# Altium footprint library con-leotronics.PCBLIB: 93 footprints (part 5 of 8)
Each footprint in its own frame and in the unit in brackets; x right, y up, seen from the top. Pads: shape width x height; smd on the part's side, far side on the other; paste and mask are expansions set on the pad; w line width, h text height; cw(c..) or ccw(c..) is an arc to the next point about the centre after c.
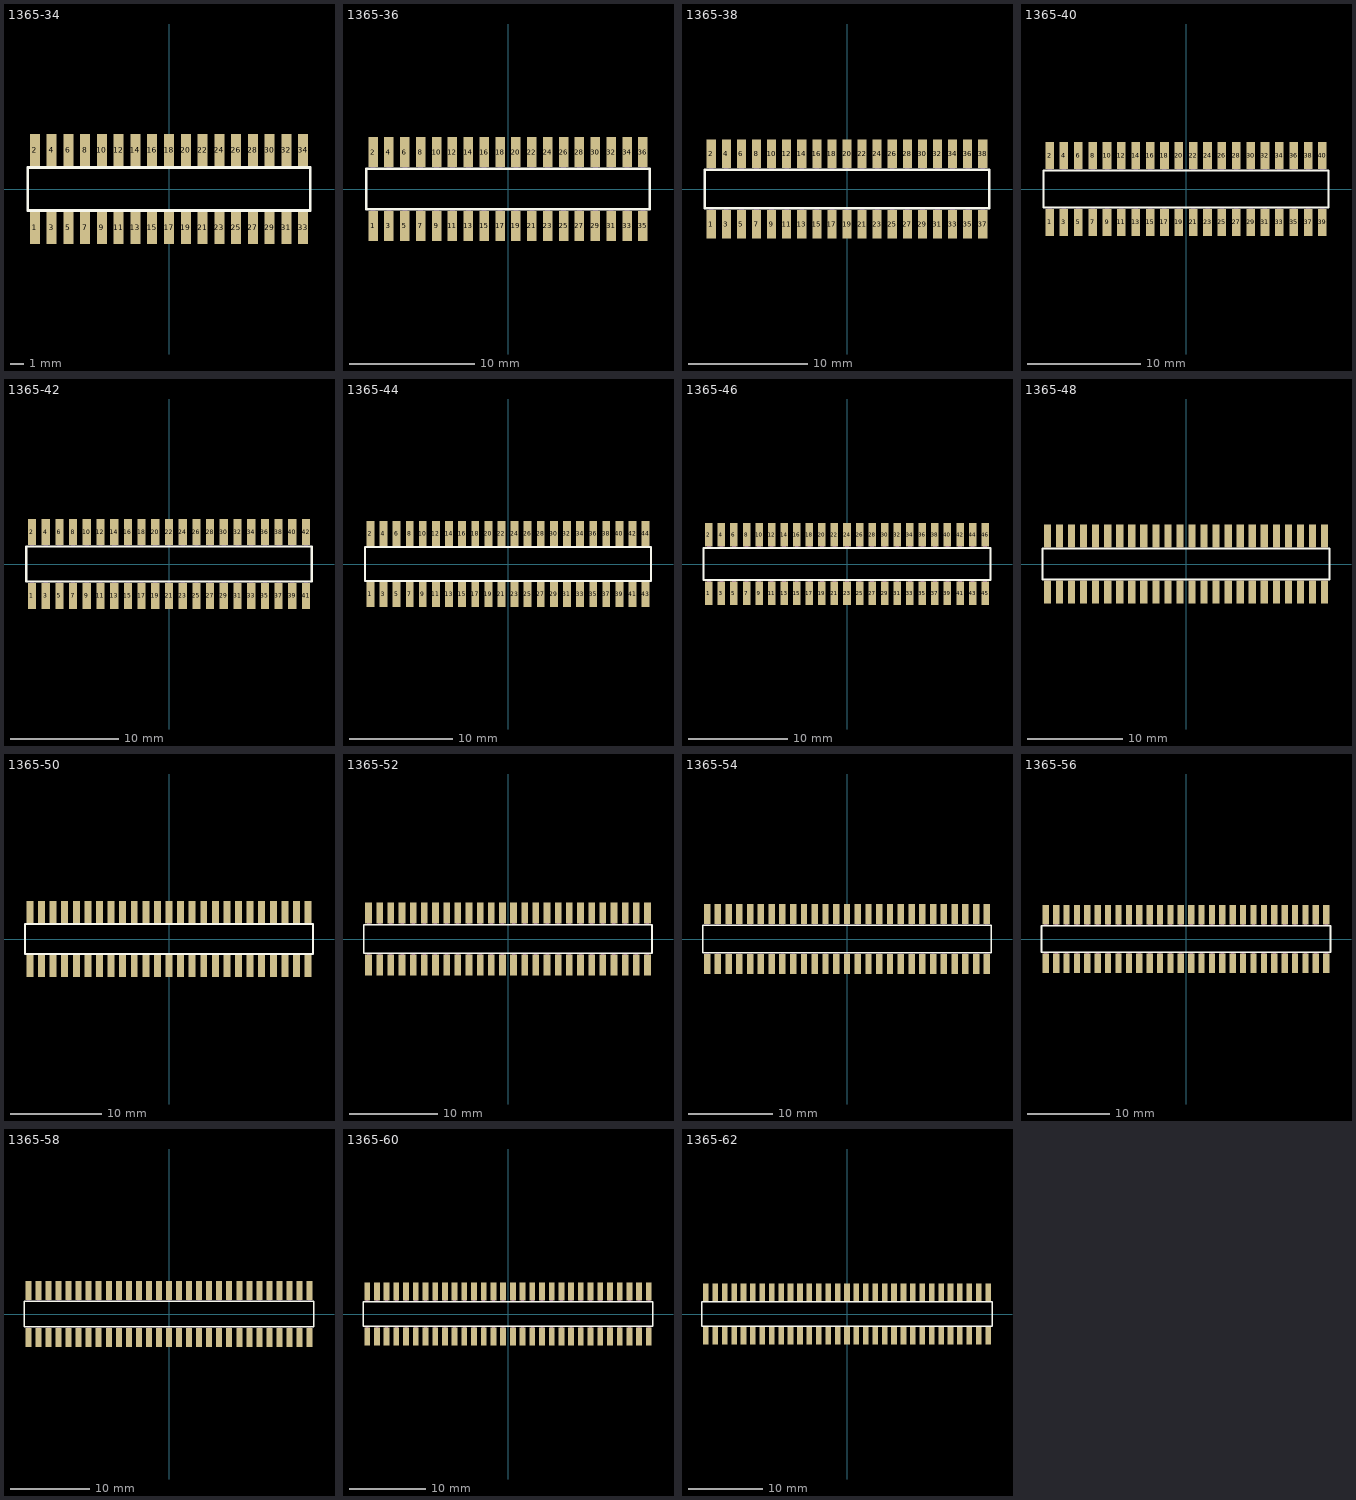
[diagram p4: the footprints below, top view; thin cyan lines are the x and y axes]

## 1365-34 [mm]
pads (34):
  rect 0.76x2.4 smd: 1(-10.16,-2.95) 2(-10.16,2.95) 3(-8.89,-2.95) 4(-8.89,2.95) 5(-7.62,-2.95) 6(-7.62,2.95) 7(-6.35,-2.95) 8(-6.35,2.95) 9(-5.08,-2.95) 10(-5.08,2.95) 11(-3.81,-2.95) 12(-3.81,2.95) 13(-2.54,-2.95) 14(-2.54,2.95) 15(-1.27,-2.95) 16(-1.27,2.95) 17(0,-2.95) 18(0,2.95) 19(1.27,-2.95) 20(1.27,2.95) 21(2.54,-2.95) 22(2.54,2.95) 23(3.81,-2.95) 24(3.81,2.95) 25(5.08,-2.95) 26(5.08,2.95) 27(6.35,-2.95) 28(6.35,2.95) 29(7.62,-2.95) 30(7.62,2.95) 31(8.89,-2.95) 32(8.89,2.95) 33(10.16,-2.95) 34(10.16,2.95)
Top Overlay:
  lines w0.203: -10.695,-1.63 10.69,-1.63 10.69,1.63 -10.695,1.63 -10.695,-1.63
Mechanical 16:
  rectangle: -10.36,1.725 -9.96,2.75
  region: -9.96,-1.725 -10.36,-1.725 -10.36,-2.75 -9.96,-2.75
  rectangle: -9.09,1.725 -8.69,2.75
  region: -8.69,-1.725 -9.09,-1.725 -9.09,-2.75 -8.69,-2.75
  rectangle: -7.82,1.725 -7.42,2.75
  region: -7.42,-1.725 -7.82,-1.725 -7.82,-2.75 -7.42,-2.75
  rectangle: -6.55,1.725 -6.15,2.75
  region: -6.15,-1.725 -6.55,-1.725 -6.55,-2.75 -6.15,-2.75
  rectangle: -5.28,1.725 -4.88,2.75
  region: -4.88,-1.725 -5.28,-1.725 -5.28,-2.75 -4.88,-2.75
  rectangle: -4.01,1.725 -3.61,2.75
  region: -3.61,-1.725 -4.01,-1.725 -4.01,-2.75 -3.61,-2.75
  rectangle: -2.74,1.725 -2.34,2.75
  region: -2.34,-1.725 -2.74,-1.725 -2.74,-2.75 -2.34,-2.75
  rectangle: -1.47,1.725 -1.07,2.75
  region: -1.07,-1.725 -1.47,-1.725 -1.47,-2.75 -1.07,-2.75
  rectangle: -0.2,1.725 0.2,2.75
  region: 0.2,-1.725 -0.2,-1.725 -0.2,-2.75 0.2,-2.75
  rectangle: 1.07,1.725 1.47,2.75
  region: 1.47,-1.725 1.07,-1.725 1.07,-2.75 1.47,-2.75
  rectangle: 2.34,1.725 2.74,2.75
  region: 2.74,-1.725 2.34,-1.725 2.34,-2.75 2.74,-2.75
  rectangle: 3.61,1.725 4.01,2.75
  region: 4.01,-1.725 3.61,-1.725 3.61,-2.75 4.01,-2.75
  rectangle: 4.88,1.725 5.28,2.75
  region: 5.28,-1.725 4.88,-1.725 4.88,-2.75 5.28,-2.75
  rectangle: 6.15,1.725 6.55,2.75
  region: 6.55,-1.725 6.15,-1.725 6.15,-2.75 6.55,-2.75
  rectangle: 7.42,1.725 7.82,2.75
  region: 7.82,-1.725 7.42,-1.725 7.42,-2.75 7.82,-2.75
  rectangle: 8.69,1.725 9.09,2.75
  region: 9.09,-1.725 8.69,-1.725 8.69,-2.75 9.09,-2.75
  rectangle: 9.96,1.725 10.36,2.75
  region: 10.36,-1.725 9.96,-1.725 9.96,-2.75 10.36,-2.75

## 1365-36 [mm]
pads (36):
  rect 0.76x2.4 smd: 1(-10.795,-2.95) 2(-10.795,2.95) 3(-9.525,-2.95) 4(-9.525,2.95) 5(-8.255,-2.95) 6(-8.255,2.95) 7(-6.985,-2.95) 8(-6.985,2.95) 9(-5.715,-2.95) 10(-5.715,2.95) 11(-4.445,-2.95) 12(-4.445,2.95) 13(-3.175,-2.95) 14(-3.175,2.95) 15(-1.905,-2.95) 16(-1.905,2.95) 17(-0.635,-2.95) 18(-0.635,2.95) 19(0.635,-2.95) 20(0.635,2.95) 21(1.905,-2.95) 22(1.905,2.95) 23(3.175,-2.95) 24(3.175,2.95) 25(4.445,-2.95) 26(4.445,2.95) 27(5.715,-2.95) 28(5.715,2.95) 29(6.985,-2.95) 30(6.985,2.95) 31(8.255,-2.95) 32(8.255,2.95) 33(9.525,-2.95) 34(9.525,2.95) 35(10.795,-2.95) 36(10.795,2.95)
Top Overlay:
  lines w0.203: -11.33,-1.63 11.325,-1.63 11.325,1.63 -11.33,1.63 -11.33,-1.63
Mechanical 16:
  rectangle: -10.995,1.725 -10.595,2.75
  region: -10.595,-1.725 -10.995,-1.725 -10.995,-2.75 -10.595,-2.75
  rectangle: -9.725,1.725 -9.325,2.75
  region: -9.325,-1.725 -9.725,-1.725 -9.725,-2.75 -9.325,-2.75
  rectangle: -8.455,1.725 -8.055,2.75
  region: -8.055,-1.725 -8.455,-1.725 -8.455,-2.75 -8.055,-2.75
  rectangle: -7.185,1.725 -6.785,2.75
  region: -6.785,-1.725 -7.185,-1.725 -7.185,-2.75 -6.785,-2.75
  rectangle: -5.915,1.725 -5.515,2.75
  region: -5.515,-1.725 -5.915,-1.725 -5.915,-2.75 -5.515,-2.75
  rectangle: -4.645,1.725 -4.245,2.75
  region: -4.245,-1.725 -4.645,-1.725 -4.645,-2.75 -4.245,-2.75
  rectangle: -3.375,1.725 -2.975,2.75
  region: -2.975,-1.725 -3.375,-1.725 -3.375,-2.75 -2.975,-2.75
  rectangle: -2.105,1.725 -1.705,2.75
  region: -1.705,-1.725 -2.105,-1.725 -2.105,-2.75 -1.705,-2.75
  rectangle: -0.835,1.725 -0.435,2.75
  region: -0.435,-1.725 -0.835,-1.725 -0.835,-2.75 -0.435,-2.75
  rectangle: 0.435,1.725 0.835,2.75
  region: 0.835,-1.725 0.435,-1.725 0.435,-2.75 0.835,-2.75
  rectangle: 1.705,1.725 2.105,2.75
  region: 2.105,-1.725 1.705,-1.725 1.705,-2.75 2.105,-2.75
  rectangle: 2.975,1.725 3.375,2.75
  region: 3.375,-1.725 2.975,-1.725 2.975,-2.75 3.375,-2.75
  rectangle: 4.245,1.725 4.645,2.75
  region: 4.645,-1.725 4.245,-1.725 4.245,-2.75 4.645,-2.75
  rectangle: 5.515,1.725 5.915,2.75
  region: 5.915,-1.725 5.515,-1.725 5.515,-2.75 5.915,-2.75
  rectangle: 6.785,1.725 7.185,2.75
  region: 7.185,-1.725 6.785,-1.725 6.785,-2.75 7.185,-2.75
  rectangle: 8.055,1.725 8.455,2.75
  region: 8.455,-1.725 8.055,-1.725 8.055,-2.75 8.455,-2.75
  rectangle: 9.325,1.725 9.725,2.75
  region: 9.725,-1.725 9.325,-1.725 9.325,-2.75 9.725,-2.75
  rectangle: 10.595,1.725 10.995,2.75
  region: 10.995,-1.725 10.595,-1.725 10.595,-2.75 10.995,-2.75

## 1365-38 [mm]
pads (38):
  rect 0.76x2.4 smd: 1(-11.43,-2.95) 2(-11.43,2.95) 3(-10.16,-2.95) 4(-10.16,2.95) 5(-8.89,-2.95) 6(-8.89,2.95) 7(-7.62,-2.95) 8(-7.62,2.95) 9(-6.35,-2.95) 10(-6.35,2.95) 11(-5.08,-2.95) 12(-5.08,2.95) 13(-3.81,-2.95) 14(-3.81,2.95) 15(-2.54,-2.95) 16(-2.54,2.95) 17(-1.27,-2.95) 18(-1.27,2.95) 19(0,-2.95) 20(0,2.95) 21(1.27,-2.95) 22(1.27,2.95) 23(2.54,-2.95) 24(2.54,2.95) 25(3.81,-2.95) 26(3.81,2.95) 27(5.08,-2.95) 28(5.08,2.95) 29(6.35,-2.95) 30(6.35,2.95) 31(7.62,-2.95) 32(7.62,2.95) 33(8.89,-2.95) 34(8.89,2.95) 35(10.16,-2.95) 36(10.16,2.95) 37(11.43,-2.95) 38(11.43,2.95)
Top Overlay:
  lines w0.203: -11.965,-1.63 11.96,-1.63 11.96,1.63 -11.965,1.63 -11.965,-1.63
Mechanical 16:
  rectangle: -11.63,1.725 -11.23,2.75
  region: -11.23,-1.725 -11.63,-1.725 -11.63,-2.75 -11.23,-2.75
  rectangle: -10.36,1.725 -9.96,2.75
  region: -9.96,-1.725 -10.36,-1.725 -10.36,-2.75 -9.96,-2.75
  rectangle: -9.09,1.725 -8.69,2.75
  region: -8.69,-1.725 -9.09,-1.725 -9.09,-2.75 -8.69,-2.75
  rectangle: -7.82,1.725 -7.42,2.75
  region: -7.42,-1.725 -7.82,-1.725 -7.82,-2.75 -7.42,-2.75
  rectangle: -6.55,1.725 -6.15,2.75
  region: -6.15,-1.725 -6.55,-1.725 -6.55,-2.75 -6.15,-2.75
  rectangle: -5.28,1.725 -4.88,2.75
  region: -4.88,-1.725 -5.28,-1.725 -5.28,-2.75 -4.88,-2.75
  rectangle: -4.01,1.725 -3.61,2.75
  region: -3.61,-1.725 -4.01,-1.725 -4.01,-2.75 -3.61,-2.75
  rectangle: -2.74,1.725 -2.34,2.75
  region: -2.34,-1.725 -2.74,-1.725 -2.74,-2.75 -2.34,-2.75
  rectangle: -1.47,1.725 -1.07,2.75
  region: -1.07,-1.725 -1.47,-1.725 -1.47,-2.75 -1.07,-2.75
  rectangle: -0.2,1.725 0.2,2.75
  region: 0.2,-1.725 -0.2,-1.725 -0.2,-2.75 0.2,-2.75
  rectangle: 1.07,1.725 1.47,2.75
  region: 1.47,-1.725 1.07,-1.725 1.07,-2.75 1.47,-2.75
  rectangle: 2.34,1.725 2.74,2.75
  region: 2.74,-1.725 2.34,-1.725 2.34,-2.75 2.74,-2.75
  rectangle: 3.61,1.725 4.01,2.75
  region: 4.01,-1.725 3.61,-1.725 3.61,-2.75 4.01,-2.75
  rectangle: 4.88,1.725 5.28,2.75
  region: 5.28,-1.725 4.88,-1.725 4.88,-2.75 5.28,-2.75
  rectangle: 6.15,1.725 6.55,2.75
  region: 6.55,-1.725 6.15,-1.725 6.15,-2.75 6.55,-2.75
  rectangle: 7.42,1.725 7.82,2.75
  region: 7.82,-1.725 7.42,-1.725 7.42,-2.75 7.82,-2.75
  rectangle: 8.69,1.725 9.09,2.75
  region: 9.09,-1.725 8.69,-1.725 8.69,-2.75 9.09,-2.75
  rectangle: 9.96,1.725 10.36,2.75
  region: 10.36,-1.725 9.96,-1.725 9.96,-2.75 10.36,-2.75
  rectangle: 11.23,1.725 11.63,2.75
  region: 11.63,-1.725 11.23,-1.725 11.23,-2.75 11.63,-2.75

## 1365-40 [mm]
pads (40):
  rect 0.76x2.4 smd: 1(-12.065,-2.95) 2(-12.065,2.95) 3(-10.795,-2.95) 4(-10.795,2.95) 5(-9.525,-2.95) 6(-9.525,2.95) 7(-8.255,-2.95) 8(-8.255,2.95) 9(-6.985,-2.95) 10(-6.985,2.95) 11(-5.715,-2.95) 12(-5.715,2.95) 13(-4.445,-2.95) 14(-4.445,2.95) 15(-3.175,-2.95) 16(-3.175,2.95) 17(-1.905,-2.95) 18(-1.905,2.95) 19(-0.635,-2.95) 20(-0.635,2.95) 21(0.635,-2.95) 22(0.635,2.95) 23(1.905,-2.95) 24(1.905,2.95) 25(3.175,-2.95) 26(3.175,2.95) 27(4.445,-2.95) 28(4.445,2.95) 29(5.715,-2.95) 30(5.715,2.95) 31(6.985,-2.95) 32(6.985,2.95) 33(8.255,-2.95) 34(8.255,2.95) 35(9.525,-2.95) 36(9.525,2.95) 37(10.795,-2.95) 38(10.795,2.95) 39(12.065,-2.95) 40(12.065,2.95)
Top Overlay:
  lines w0.203: -12.6,-1.63 12.595,-1.63 12.595,1.63 -12.6,1.63 -12.6,-1.63
Mechanical 16:
  rectangle: -12.265,1.725 -11.865,2.75
  region: -11.865,-1.725 -12.265,-1.725 -12.265,-2.75 -11.865,-2.75
  rectangle: -10.995,1.725 -10.595,2.75
  region: -10.595,-1.725 -10.995,-1.725 -10.995,-2.75 -10.595,-2.75
  rectangle: -9.725,1.725 -9.325,2.75
  region: -9.325,-1.725 -9.725,-1.725 -9.725,-2.75 -9.325,-2.75
  rectangle: -8.455,1.725 -8.055,2.75
  region: -8.055,-1.725 -8.455,-1.725 -8.455,-2.75 -8.055,-2.75
  rectangle: -7.185,1.725 -6.785,2.75
  region: -6.785,-1.725 -7.185,-1.725 -7.185,-2.75 -6.785,-2.75
  rectangle: -5.915,1.725 -5.515,2.75
  region: -5.515,-1.725 -5.915,-1.725 -5.915,-2.75 -5.515,-2.75
  rectangle: -4.645,1.725 -4.245,2.75
  region: -4.245,-1.725 -4.645,-1.725 -4.645,-2.75 -4.245,-2.75
  rectangle: -3.375,1.725 -2.975,2.75
  region: -2.975,-1.725 -3.375,-1.725 -3.375,-2.75 -2.975,-2.75
  rectangle: -2.105,1.725 -1.705,2.75
  region: -1.705,-1.725 -2.105,-1.725 -2.105,-2.75 -1.705,-2.75
  rectangle: -0.835,1.725 -0.435,2.75
  region: -0.435,-1.725 -0.835,-1.725 -0.835,-2.75 -0.435,-2.75
  rectangle: 0.435,1.725 0.835,2.75
  region: 0.835,-1.725 0.435,-1.725 0.435,-2.75 0.835,-2.75
  rectangle: 1.705,1.725 2.105,2.75
  region: 2.105,-1.725 1.705,-1.725 1.705,-2.75 2.105,-2.75
  rectangle: 2.975,1.725 3.375,2.75
  region: 3.375,-1.725 2.975,-1.725 2.975,-2.75 3.375,-2.75
  rectangle: 4.245,1.725 4.645,2.75
  region: 4.645,-1.725 4.245,-1.725 4.245,-2.75 4.645,-2.75
  rectangle: 5.515,1.725 5.915,2.75
  region: 5.915,-1.725 5.515,-1.725 5.515,-2.75 5.915,-2.75
  rectangle: 6.785,1.725 7.185,2.75
  region: 7.185,-1.725 6.785,-1.725 6.785,-2.75 7.185,-2.75
  rectangle: 8.055,1.725 8.455,2.75
  region: 8.455,-1.725 8.055,-1.725 8.055,-2.75 8.455,-2.75
  rectangle: 9.325,1.725 9.725,2.75
  region: 9.725,-1.725 9.325,-1.725 9.325,-2.75 9.725,-2.75
  rectangle: 10.595,1.725 10.995,2.75
  region: 10.995,-1.725 10.595,-1.725 10.595,-2.75 10.995,-2.75
  rectangle: 11.865,1.725 12.265,2.75
  region: 12.265,-1.725 11.865,-1.725 11.865,-2.75 12.265,-2.75

## 1365-42 [mm]
pads (42):
  rect 0.76x2.4 smd: 1(-12.7,-2.95) 2(-12.7,2.95) 3(-11.43,-2.95) 4(-11.43,2.95) 5(-10.16,-2.95) 6(-10.16,2.95) 7(-8.89,-2.95) 8(-8.89,2.95) 9(-7.62,-2.95) 10(-7.62,2.95) 11(-6.35,-2.95) 12(-6.35,2.95) 13(-5.08,-2.95) 14(-5.08,2.95) 15(-3.81,-2.95) 16(-3.81,2.95) 17(-2.54,-2.95) 18(-2.54,2.95) 19(-1.27,-2.95) 20(-1.27,2.95) 21(0,-2.95) 22(0,2.95) 23(1.27,-2.95) 24(1.27,2.95) 25(2.54,-2.95) 26(2.54,2.95) 27(3.81,-2.95) 28(3.81,2.95) 29(5.08,-2.95) 30(5.08,2.95) 31(6.35,-2.95) 32(6.35,2.95) 33(7.62,-2.95) 34(7.62,2.95) 35(8.89,-2.95) 36(8.89,2.95) 37(10.16,-2.95) 38(10.16,2.95) 39(11.43,-2.95) 40(11.43,2.95) 41(12.7,-2.95) 42(12.7,2.95)
Top Overlay:
  lines w0.203: -13.235,-1.63 13.23,-1.63 13.23,1.63 -13.235,1.63 -13.235,-1.63
Mechanical 16:
  rectangle: -12.9,1.725 -12.5,2.75
  region: -12.5,-1.725 -12.9,-1.725 -12.9,-2.75 -12.5,-2.75
  rectangle: -11.63,1.725 -11.23,2.75
  region: -11.23,-1.725 -11.63,-1.725 -11.63,-2.75 -11.23,-2.75
  rectangle: -10.36,1.725 -9.96,2.75
  region: -9.96,-1.725 -10.36,-1.725 -10.36,-2.75 -9.96,-2.75
  rectangle: -9.09,1.725 -8.69,2.75
  region: -8.69,-1.725 -9.09,-1.725 -9.09,-2.75 -8.69,-2.75
  rectangle: -7.82,1.725 -7.42,2.75
  region: -7.42,-1.725 -7.82,-1.725 -7.82,-2.75 -7.42,-2.75
  rectangle: -6.55,1.725 -6.15,2.75
  region: -6.15,-1.725 -6.55,-1.725 -6.55,-2.75 -6.15,-2.75
  rectangle: -5.28,1.725 -4.88,2.75
  region: -4.88,-1.725 -5.28,-1.725 -5.28,-2.75 -4.88,-2.75
  rectangle: -4.01,1.725 -3.61,2.75
  region: -3.61,-1.725 -4.01,-1.725 -4.01,-2.75 -3.61,-2.75
  rectangle: -2.74,1.725 -2.34,2.75
  region: -2.34,-1.725 -2.74,-1.725 -2.74,-2.75 -2.34,-2.75
  rectangle: -1.47,1.725 -1.07,2.75
  region: -1.07,-1.725 -1.47,-1.725 -1.47,-2.75 -1.07,-2.75
  rectangle: -0.2,1.725 0.2,2.75
  region: 0.2,-1.725 -0.2,-1.725 -0.2,-2.75 0.2,-2.75
  rectangle: 1.07,1.725 1.47,2.75
  region: 1.47,-1.725 1.07,-1.725 1.07,-2.75 1.47,-2.75
  rectangle: 2.34,1.725 2.74,2.75
  region: 2.74,-1.725 2.34,-1.725 2.34,-2.75 2.74,-2.75
  rectangle: 3.61,1.725 4.01,2.75
  region: 4.01,-1.725 3.61,-1.725 3.61,-2.75 4.01,-2.75
  rectangle: 4.88,1.725 5.28,2.75
  region: 5.28,-1.725 4.88,-1.725 4.88,-2.75 5.28,-2.75
  rectangle: 6.15,1.725 6.55,2.75
  region: 6.55,-1.725 6.15,-1.725 6.15,-2.75 6.55,-2.75
  rectangle: 7.42,1.725 7.82,2.75
  region: 7.82,-1.725 7.42,-1.725 7.42,-2.75 7.82,-2.75
  rectangle: 8.69,1.725 9.09,2.75
  region: 9.09,-1.725 8.69,-1.725 8.69,-2.75 9.09,-2.75
  rectangle: 9.96,1.725 10.36,2.75
  region: 10.36,-1.725 9.96,-1.725 9.96,-2.75 10.36,-2.75
  rectangle: 11.23,1.725 11.63,2.75
  region: 11.63,-1.725 11.23,-1.725 11.23,-2.75 11.63,-2.75
  rectangle: 12.5,1.725 12.9,2.75
  region: 12.9,-1.725 12.5,-1.725 12.5,-2.75 12.9,-2.75

## 1365-44 [mm]
pads (44):
  rect 0.76x2.4 smd: 1(-13.335,-2.95) 2(-13.335,2.95) 3(-12.065,-2.95) 4(-12.065,2.95) 5(-10.795,-2.95) 6(-10.795,2.95) 7(-9.525,-2.95) 8(-9.525,2.95) 9(-8.255,-2.95) 10(-8.255,2.95) 11(-6.985,-2.95) 12(-6.985,2.95) 13(-5.715,-2.95) 14(-5.715,2.95) 15(-4.445,-2.95) 16(-4.445,2.95) 17(-3.175,-2.95) 18(-3.175,2.95) 19(-1.905,-2.95) 20(-1.905,2.95) 21(-0.635,-2.95) 22(-0.635,2.95) 23(0.635,-2.95) 24(0.635,2.95) 25(1.905,-2.95) 26(1.905,2.95) 27(3.175,-2.95) 28(3.175,2.95) 29(4.445,-2.95) 30(4.445,2.95) 31(5.715,-2.95) 32(5.715,2.95) 33(6.985,-2.95) 34(6.985,2.95) 35(8.255,-2.95) 36(8.255,2.95) 37(9.525,-2.95) 38(9.525,2.95) 39(10.795,-2.95) 40(10.795,2.95) 41(12.065,-2.95) 42(12.065,2.95) 43(13.335,-2.95) 44(13.335,2.95)
Top Overlay:
  lines w0.203: -13.87,-1.63 13.865,-1.63 13.865,1.63 -13.87,1.63 -13.87,-1.63
Mechanical 16:
  rectangle: -13.535,1.725 -13.135,2.75
  region: -13.135,-1.725 -13.535,-1.725 -13.535,-2.75 -13.135,-2.75
  rectangle: -12.265,1.725 -11.865,2.75
  region: -11.865,-1.725 -12.265,-1.725 -12.265,-2.75 -11.865,-2.75
  rectangle: -10.995,1.725 -10.595,2.75
  region: -10.595,-1.725 -10.995,-1.725 -10.995,-2.75 -10.595,-2.75
  rectangle: -9.725,1.725 -9.325,2.75
  region: -9.325,-1.725 -9.725,-1.725 -9.725,-2.75 -9.325,-2.75
  rectangle: -8.455,1.725 -8.055,2.75
  region: -8.055,-1.725 -8.455,-1.725 -8.455,-2.75 -8.055,-2.75
  rectangle: -7.185,1.725 -6.785,2.75
  region: -6.785,-1.725 -7.185,-1.725 -7.185,-2.75 -6.785,-2.75
  rectangle: -5.915,1.725 -5.515,2.75
  region: -5.515,-1.725 -5.915,-1.725 -5.915,-2.75 -5.515,-2.75
  rectangle: -4.645,1.725 -4.245,2.75
  region: -4.245,-1.725 -4.645,-1.725 -4.645,-2.75 -4.245,-2.75
  rectangle: -3.375,1.725 -2.975,2.75
  region: -2.975,-1.725 -3.375,-1.725 -3.375,-2.75 -2.975,-2.75
  rectangle: -2.105,1.725 -1.705,2.75
  region: -1.705,-1.725 -2.105,-1.725 -2.105,-2.75 -1.705,-2.75
  rectangle: -0.835,1.725 -0.435,2.75
  region: -0.435,-1.725 -0.835,-1.725 -0.835,-2.75 -0.435,-2.75
  rectangle: 0.435,1.725 0.835,2.75
  region: 0.835,-1.725 0.435,-1.725 0.435,-2.75 0.835,-2.75
  rectangle: 1.705,1.725 2.105,2.75
  region: 2.105,-1.725 1.705,-1.725 1.705,-2.75 2.105,-2.75
  rectangle: 2.975,1.725 3.375,2.75
  region: 3.375,-1.725 2.975,-1.725 2.975,-2.75 3.375,-2.75
  rectangle: 4.245,1.725 4.645,2.75
  region: 4.645,-1.725 4.245,-1.725 4.245,-2.75 4.645,-2.75
  rectangle: 5.515,1.725 5.915,2.75
  region: 5.915,-1.725 5.515,-1.725 5.515,-2.75 5.915,-2.75
  rectangle: 6.785,1.725 7.185,2.75
  region: 7.185,-1.725 6.785,-1.725 6.785,-2.75 7.185,-2.75
  rectangle: 8.055,1.725 8.455,2.75
  region: 8.455,-1.725 8.055,-1.725 8.055,-2.75 8.455,-2.75
  rectangle: 9.325,1.725 9.725,2.75
  region: 9.725,-1.725 9.325,-1.725 9.325,-2.75 9.725,-2.75
  rectangle: 10.595,1.725 10.995,2.75
  region: 10.995,-1.725 10.595,-1.725 10.595,-2.75 10.995,-2.75
  rectangle: 11.865,1.725 12.265,2.75
  region: 12.265,-1.725 11.865,-1.725 11.865,-2.75 12.265,-2.75
  rectangle: 13.135,1.725 13.535,2.75
  region: 13.535,-1.725 13.135,-1.725 13.135,-2.75 13.535,-2.75

## 1365-46 [mm]
pads (46):
  rect 0.76x2.4 smd: 1(-13.97,-2.95) 2(-13.97,2.95) 3(-12.7,-2.95) 4(-12.7,2.95) 5(-11.43,-2.95) 6(-11.43,2.95) 7(-10.16,-2.95) 8(-10.16,2.95) 9(-8.89,-2.95) 10(-8.89,2.95) 11(-7.62,-2.95) 12(-7.62,2.95) 13(-6.35,-2.95) 14(-6.35,2.95) 15(-5.08,-2.95) 16(-5.08,2.95) 17(-3.81,-2.95) 18(-3.81,2.95) 19(-2.54,-2.95) 20(-2.54,2.95) 21(-1.27,-2.95) 22(-1.27,2.95) 23(0,-2.95) 24(0,2.95) 25(1.27,-2.95) 26(1.27,2.95) 27(2.54,-2.95) 28(2.54,2.95) 29(3.81,-2.95) 30(3.81,2.95) 31(5.08,-2.95) 32(5.08,2.95) 33(6.35,-2.95) 34(6.35,2.95) 35(7.62,-2.95) 36(7.62,2.95) 37(8.89,-2.95) 38(8.89,2.95) 39(10.16,-2.95) 40(10.16,2.95) 41(11.43,-2.95) 42(11.43,2.95) 43(12.7,-2.95) 44(12.7,2.95) 45(13.97,-2.95) 46(13.97,2.95)
Top Overlay:
  lines w0.203: -14.505,-1.63 14.5,-1.63 14.5,1.63 -14.505,1.63 -14.505,-1.63
Mechanical 16:
  rectangle: -14.17,1.725 -13.77,2.75
  region: -13.77,-1.725 -14.17,-1.725 -14.17,-2.75 -13.77,-2.75
  rectangle: -12.9,1.725 -12.5,2.75
  region: -12.5,-1.725 -12.9,-1.725 -12.9,-2.75 -12.5,-2.75
  rectangle: -11.63,1.725 -11.23,2.75
  region: -11.23,-1.725 -11.63,-1.725 -11.63,-2.75 -11.23,-2.75
  rectangle: -10.36,1.725 -9.96,2.75
  region: -9.96,-1.725 -10.36,-1.725 -10.36,-2.75 -9.96,-2.75
  rectangle: -9.09,1.725 -8.69,2.75
  region: -8.69,-1.725 -9.09,-1.725 -9.09,-2.75 -8.69,-2.75
  rectangle: -7.82,1.725 -7.42,2.75
  region: -7.42,-1.725 -7.82,-1.725 -7.82,-2.75 -7.42,-2.75
  rectangle: -6.55,1.725 -6.15,2.75
  region: -6.15,-1.725 -6.55,-1.725 -6.55,-2.75 -6.15,-2.75
  rectangle: -5.28,1.725 -4.88,2.75
  region: -4.88,-1.725 -5.28,-1.725 -5.28,-2.75 -4.88,-2.75
  rectangle: -4.01,1.725 -3.61,2.75
  region: -3.61,-1.725 -4.01,-1.725 -4.01,-2.75 -3.61,-2.75
  rectangle: -2.74,1.725 -2.34,2.75
  region: -2.34,-1.725 -2.74,-1.725 -2.74,-2.75 -2.34,-2.75
  rectangle: -1.47,1.725 -1.07,2.75
  region: -1.07,-1.725 -1.47,-1.725 -1.47,-2.75 -1.07,-2.75
  rectangle: -0.2,1.725 0.2,2.75
  region: 0.2,-1.725 -0.2,-1.725 -0.2,-2.75 0.2,-2.75
  rectangle: 1.07,1.725 1.47,2.75
  region: 1.47,-1.725 1.07,-1.725 1.07,-2.75 1.47,-2.75
  rectangle: 2.34,1.725 2.74,2.75
  region: 2.74,-1.725 2.34,-1.725 2.34,-2.75 2.74,-2.75
  rectangle: 3.61,1.725 4.01,2.75
  region: 4.01,-1.725 3.61,-1.725 3.61,-2.75 4.01,-2.75
  rectangle: 4.88,1.725 5.28,2.75
  region: 5.28,-1.725 4.88,-1.725 4.88,-2.75 5.28,-2.75
  rectangle: 6.15,1.725 6.55,2.75
  region: 6.55,-1.725 6.15,-1.725 6.15,-2.75 6.55,-2.75
  rectangle: 7.42,1.725 7.82,2.75
  region: 7.82,-1.725 7.42,-1.725 7.42,-2.75 7.82,-2.75
  rectangle: 8.69,1.725 9.09,2.75
  region: 9.09,-1.725 8.69,-1.725 8.69,-2.75 9.09,-2.75
  rectangle: 9.96,1.725 10.36,2.75
  region: 10.36,-1.725 9.96,-1.725 9.96,-2.75 10.36,-2.75
  rectangle: 11.23,1.725 11.63,2.75
  region: 11.63,-1.725 11.23,-1.725 11.23,-2.75 11.63,-2.75
  rectangle: 12.5,1.725 12.9,2.75
  region: 12.9,-1.725 12.5,-1.725 12.5,-2.75 12.9,-2.75
  rectangle: 13.77,1.725 14.17,2.75
  region: 14.17,-1.725 13.77,-1.725 13.77,-2.75 14.17,-2.75

## 1365-48 [mm]
pads (48):
  rect 0.76x2.4 smd: 1(-14.605,-2.95) 2(-14.605,2.95) 3(-13.335,-2.95) 4(-13.335,2.95) 5(-12.065,-2.95) 6(-12.065,2.95) 7(-10.795,-2.95) 8(-10.795,2.95) 9(-9.525,-2.95) 10(-9.525,2.95) 11(-8.255,-2.95) 12(-8.255,2.95) 13(-6.985,-2.95) 14(-6.985,2.95) 15(-5.715,-2.95) 16(-5.715,2.95) 17(-4.445,-2.95) 18(-4.445,2.95) 19(-3.175,-2.95) 20(-3.175,2.95) 21(-1.905,-2.95) 22(-1.905,2.95) 23(-0.635,-2.95) 24(-0.635,2.95) 25(0.635,-2.95) 26(0.635,2.95) 27(1.905,-2.95) 28(1.905,2.95) 29(3.175,-2.95) 30(3.175,2.95) 31(4.445,-2.95) 32(4.445,2.95) 33(5.715,-2.95) 34(5.715,2.95) 35(6.985,-2.95) 36(6.985,2.95) 37(8.255,-2.95) 38(8.255,2.95) 39(9.525,-2.95) 40(9.525,2.95) 41(10.795,-2.95) 42(10.795,2.95) 43(12.065,-2.95) 44(12.065,2.95) 45(13.335,-2.95) 46(13.335,2.95) 47(14.605,-2.95) 48(14.605,2.95)
Top Overlay:
  lines w0.203: -15.14,-1.63 15.135,-1.63 15.135,1.63 -15.14,1.63 -15.14,-1.63
Mechanical 16:
  rectangle: -14.805,1.725 -14.405,2.75
  region: -14.405,-1.725 -14.805,-1.725 -14.805,-2.75 -14.405,-2.75
  rectangle: -13.535,1.725 -13.135,2.75
  region: -13.135,-1.725 -13.535,-1.725 -13.535,-2.75 -13.135,-2.75
  rectangle: -12.265,1.725 -11.865,2.75
  region: -11.865,-1.725 -12.265,-1.725 -12.265,-2.75 -11.865,-2.75
  rectangle: -10.995,1.725 -10.595,2.75
  region: -10.595,-1.725 -10.995,-1.725 -10.995,-2.75 -10.595,-2.75
  rectangle: -9.725,1.725 -9.325,2.75
  region: -9.325,-1.725 -9.725,-1.725 -9.725,-2.75 -9.325,-2.75
  rectangle: -8.455,1.725 -8.055,2.75
  region: -8.055,-1.725 -8.455,-1.725 -8.455,-2.75 -8.055,-2.75
  rectangle: -7.185,1.725 -6.785,2.75
  region: -6.785,-1.725 -7.185,-1.725 -7.185,-2.75 -6.785,-2.75
  rectangle: -5.915,1.725 -5.515,2.75
  region: -5.515,-1.725 -5.915,-1.725 -5.915,-2.75 -5.515,-2.75
  rectangle: -4.645,1.725 -4.245,2.75
  region: -4.245,-1.725 -4.645,-1.725 -4.645,-2.75 -4.245,-2.75
  rectangle: -3.375,1.725 -2.975,2.75
  region: -2.975,-1.725 -3.375,-1.725 -3.375,-2.75 -2.975,-2.75
  rectangle: -2.105,1.725 -1.705,2.75
  region: -1.705,-1.725 -2.105,-1.725 -2.105,-2.75 -1.705,-2.75
  rectangle: -0.835,1.725 -0.435,2.75
  region: -0.435,-1.725 -0.835,-1.725 -0.835,-2.75 -0.435,-2.75
  rectangle: 0.435,1.725 0.835,2.75
  region: 0.835,-1.725 0.435,-1.725 0.435,-2.75 0.835,-2.75
  rectangle: 1.705,1.725 2.105,2.75
  region: 2.105,-1.725 1.705,-1.725 1.705,-2.75 2.105,-2.75
  rectangle: 2.975,1.725 3.375,2.75
  region: 3.375,-1.725 2.975,-1.725 2.975,-2.75 3.375,-2.75
  rectangle: 4.245,1.725 4.645,2.75
  region: 4.645,-1.725 4.245,-1.725 4.245,-2.75 4.645,-2.75
  rectangle: 5.515,1.725 5.915,2.75
  region: 5.915,-1.725 5.515,-1.725 5.515,-2.75 5.915,-2.75
  rectangle: 6.785,1.725 7.185,2.75
  region: 7.185,-1.725 6.785,-1.725 6.785,-2.75 7.185,-2.75
  rectangle: 8.055,1.725 8.455,2.75
  region: 8.455,-1.725 8.055,-1.725 8.055,-2.75 8.455,-2.75
  rectangle: 9.325,1.725 9.725,2.75
  region: 9.725,-1.725 9.325,-1.725 9.325,-2.75 9.725,-2.75
  rectangle: 10.595,1.725 10.995,2.75
  region: 10.995,-1.725 10.595,-1.725 10.595,-2.75 10.995,-2.75
  rectangle: 11.865,1.725 12.265,2.75
  region: 12.265,-1.725 11.865,-1.725 11.865,-2.75 12.265,-2.75
  rectangle: 13.135,1.725 13.535,2.75
  region: 13.535,-1.725 13.135,-1.725 13.135,-2.75 13.535,-2.75
  rectangle: 14.405,1.725 14.805,2.75
  region: 14.805,-1.725 14.405,-1.725 14.405,-2.75 14.805,-2.75

## 1365-50 [mm]
pads (50):
  rect 0.76x2.4 smd: 1(-15.24,-2.95) 2(-15.24,2.95) 3(-13.97,-2.95) 4(-13.97,2.95) 5(-12.7,-2.95) 6(-12.7,2.95) 7(-11.43,-2.95) 8(-11.43,2.95) 9(-10.16,-2.95) 10(-10.16,2.95) 11(-8.89,-2.95) 12(-8.89,2.95) 13(-7.62,-2.95) 14(-7.62,2.95) 15(-6.35,-2.95) 16(-6.35,2.95) 17(-5.08,-2.95) 18(-5.08,2.95) 19(-3.81,-2.95) 20(-3.81,2.95) 21(-2.54,-2.95) 22(-2.54,2.95) 23(-1.27,-2.95) 24(-1.27,2.95) 25(0,-2.95) 26(0,2.95) 27(1.27,-2.95) 28(1.27,2.95) 29(2.54,-2.95) 30(2.54,2.95) 31(3.81,-2.95) 32(3.81,2.95) 33(5.08,-2.95) 34(5.08,2.95) 35(6.35,-2.95) 36(6.35,2.95) 37(7.62,-2.95) 38(7.62,2.95) 39(8.89,-2.95) 40(8.89,2.95) 41(10.16,-2.95) 42(10.16,2.95) 43(11.43,-2.95) 44(11.43,2.95) 45(12.7,-2.95) 46(12.7,2.95) 47(13.97,-2.95) 48(13.97,2.95) 49(15.24,-2.95) 50(15.24,2.95)
Top Overlay:
  lines w0.203: -15.775,-1.63 15.77,-1.63 15.77,1.63 -15.775,1.63 -15.775,-1.63
Mechanical 16:
  rectangle: -15.44,1.725 -15.04,2.75
  region: -15.04,-1.725 -15.44,-1.725 -15.44,-2.75 -15.04,-2.75
  rectangle: -14.17,1.725 -13.77,2.75
  region: -13.77,-1.725 -14.17,-1.725 -14.17,-2.75 -13.77,-2.75
  rectangle: -12.9,1.725 -12.5,2.75
  region: -12.5,-1.725 -12.9,-1.725 -12.9,-2.75 -12.5,-2.75
  rectangle: -11.63,1.725 -11.23,2.75
  region: -11.23,-1.725 -11.63,-1.725 -11.63,-2.75 -11.23,-2.75
  rectangle: -10.36,1.725 -9.96,2.75
  region: -9.96,-1.725 -10.36,-1.725 -10.36,-2.75 -9.96,-2.75
  rectangle: -9.09,1.725 -8.69,2.75
  region: -8.69,-1.725 -9.09,-1.725 -9.09,-2.75 -8.69,-2.75
  rectangle: -7.82,1.725 -7.42,2.75
  region: -7.42,-1.725 -7.82,-1.725 -7.82,-2.75 -7.42,-2.75
  rectangle: -6.55,1.725 -6.15,2.75
  region: -6.15,-1.725 -6.55,-1.725 -6.55,-2.75 -6.15,-2.75
  rectangle: -5.28,1.725 -4.88,2.75
  region: -4.88,-1.725 -5.28,-1.725 -5.28,-2.75 -4.88,-2.75
  rectangle: -4.01,1.725 -3.61,2.75
  region: -3.61,-1.725 -4.01,-1.725 -4.01,-2.75 -3.61,-2.75
  rectangle: -2.74,1.725 -2.34,2.75
  region: -2.34,-1.725 -2.74,-1.725 -2.74,-2.75 -2.34,-2.75
  rectangle: -1.47,1.725 -1.07,2.75
  region: -1.07,-1.725 -1.47,-1.725 -1.47,-2.75 -1.07,-2.75
  rectangle: -0.2,1.725 0.2,2.75
  region: 0.2,-1.725 -0.2,-1.725 -0.2,-2.75 0.2,-2.75
  rectangle: 1.07,1.725 1.47,2.75
  region: 1.47,-1.725 1.07,-1.725 1.07,-2.75 1.47,-2.75
  rectangle: 2.34,1.725 2.74,2.75
  region: 2.74,-1.725 2.34,-1.725 2.34,-2.75 2.74,-2.75
  rectangle: 3.61,1.725 4.01,2.75
  region: 4.01,-1.725 3.61,-1.725 3.61,-2.75 4.01,-2.75
  rectangle: 4.88,1.725 5.28,2.75
  region: 5.28,-1.725 4.88,-1.725 4.88,-2.75 5.28,-2.75
  rectangle: 6.15,1.725 6.55,2.75
  region: 6.55,-1.725 6.15,-1.725 6.15,-2.75 6.55,-2.75
  rectangle: 7.42,1.725 7.82,2.75
  region: 7.82,-1.725 7.42,-1.725 7.42,-2.75 7.82,-2.75
  rectangle: 8.69,1.725 9.09,2.75
  region: 9.09,-1.725 8.69,-1.725 8.69,-2.75 9.09,-2.75
  rectangle: 9.96,1.725 10.36,2.75
  region: 10.36,-1.725 9.96,-1.725 9.96,-2.75 10.36,-2.75
  rectangle: 11.23,1.725 11.63,2.75
  region: 11.63,-1.725 11.23,-1.725 11.23,-2.75 11.63,-2.75
  rectangle: 12.5,1.725 12.9,2.75
  region: 12.9,-1.725 12.5,-1.725 12.5,-2.75 12.9,-2.75
  rectangle: 13.77,1.725 14.17,2.75
  region: 14.17,-1.725 13.77,-1.725 13.77,-2.75 14.17,-2.75
  rectangle: 15.04,1.725 15.44,2.75
  region: 15.44,-1.725 15.04,-1.725 15.04,-2.75 15.44,-2.75

## 1365-52 [mm]
pads (52):
  rect 0.76x2.4 smd: 1(-15.875,-2.95) 2(-15.875,2.95) 3(-14.605,-2.95) 4(-14.605,2.95) 5(-13.335,-2.95) 6(-13.335,2.95) 7(-12.065,-2.95) 8(-12.065,2.95) 9(-10.795,-2.95) 10(-10.795,2.95) 11(-9.525,-2.95) 12(-9.525,2.95) 13(-8.255,-2.95) 14(-8.255,2.95) 15(-6.985,-2.95) 16(-6.985,2.95) 17(-5.715,-2.95) 18(-5.715,2.95) 19(-4.445,-2.95) 20(-4.445,2.95) 21(-3.175,-2.95) 22(-3.175,2.95) 23(-1.905,-2.95) 24(-1.905,2.95) 25(-0.635,-2.95) 26(-0.635,2.95) 27(0.635,-2.95) 28(0.635,2.95) 29(1.905,-2.95) 30(1.905,2.95) 31(3.175,-2.95) 32(3.175,2.95) 33(4.445,-2.95) 34(4.445,2.95) 35(5.715,-2.95) 36(5.715,2.95) 37(6.985,-2.95) 38(6.985,2.95) 39(8.255,-2.95) 40(8.255,2.95) 41(9.525,-2.95) 42(9.525,2.95) 43(10.795,-2.95) 44(10.795,2.95) 45(12.065,-2.95) 46(12.065,2.95) 47(13.335,-2.95) 48(13.335,2.95) 49(14.605,-2.95) 50(14.605,2.95) 51(15.875,-2.95) 52(15.875,2.95)
Top Overlay:
  lines w0.203: -16.41,-1.63 16.405,-1.63 16.405,1.63 -16.41,1.63 -16.41,-1.63
Mechanical 16:
  rectangle: -16.075,1.725 -15.675,2.75
  region: -15.675,-1.725 -16.075,-1.725 -16.075,-2.75 -15.675,-2.75
  rectangle: -14.805,1.725 -14.405,2.75
  region: -14.405,-1.725 -14.805,-1.725 -14.805,-2.75 -14.405,-2.75
  rectangle: -13.535,1.725 -13.135,2.75
  region: -13.135,-1.725 -13.535,-1.725 -13.535,-2.75 -13.135,-2.75
  rectangle: -12.265,1.725 -11.865,2.75
  region: -11.865,-1.725 -12.265,-1.725 -12.265,-2.75 -11.865,-2.75
  rectangle: -10.995,1.725 -10.595,2.75
  region: -10.595,-1.725 -10.995,-1.725 -10.995,-2.75 -10.595,-2.75
  rectangle: -9.725,1.725 -9.325,2.75
  region: -9.325,-1.725 -9.725,-1.725 -9.725,-2.75 -9.325,-2.75
  rectangle: -8.455,1.725 -8.055,2.75
  region: -8.055,-1.725 -8.455,-1.725 -8.455,-2.75 -8.055,-2.75
  rectangle: -7.185,1.725 -6.785,2.75
  region: -6.785,-1.725 -7.185,-1.725 -7.185,-2.75 -6.785,-2.75
  rectangle: -5.915,1.725 -5.515,2.75
  region: -5.515,-1.725 -5.915,-1.725 -5.915,-2.75 -5.515,-2.75
  rectangle: -4.645,1.725 -4.245,2.75
  region: -4.245,-1.725 -4.645,-1.725 -4.645,-2.75 -4.245,-2.75
  rectangle: -3.375,1.725 -2.975,2.75
  region: -2.975,-1.725 -3.375,-1.725 -3.375,-2.75 -2.975,-2.75
  rectangle: -2.105,1.725 -1.705,2.75
  region: -1.705,-1.725 -2.105,-1.725 -2.105,-2.75 -1.705,-2.75
  rectangle: -0.835,1.725 -0.435,2.75
  region: -0.435,-1.725 -0.835,-1.725 -0.835,-2.75 -0.435,-2.75
  rectangle: 0.435,1.725 0.835,2.75
  region: 0.835,-1.725 0.435,-1.725 0.435,-2.75 0.835,-2.75
  rectangle: 1.705,1.725 2.105,2.75
  region: 2.105,-1.725 1.705,-1.725 1.705,-2.75 2.105,-2.75
  rectangle: 2.975,1.725 3.375,2.75
  region: 3.375,-1.725 2.975,-1.725 2.975,-2.75 3.375,-2.75
  rectangle: 4.245,1.725 4.645,2.75
  region: 4.645,-1.725 4.245,-1.725 4.245,-2.75 4.645,-2.75
  rectangle: 5.515,1.725 5.915,2.75
  region: 5.915,-1.725 5.515,-1.725 5.515,-2.75 5.915,-2.75
  rectangle: 6.785,1.725 7.185,2.75
  region: 7.185,-1.725 6.785,-1.725 6.785,-2.75 7.185,-2.75
  rectangle: 8.055,1.725 8.455,2.75
  region: 8.455,-1.725 8.055,-1.725 8.055,-2.75 8.455,-2.75
  rectangle: 9.325,1.725 9.725,2.75
  region: 9.725,-1.725 9.325,-1.725 9.325,-2.75 9.725,-2.75
  rectangle: 10.595,1.725 10.995,2.75
  region: 10.995,-1.725 10.595,-1.725 10.595,-2.75 10.995,-2.75
  rectangle: 11.865,1.725 12.265,2.75
  region: 12.265,-1.725 11.865,-1.725 11.865,-2.75 12.265,-2.75
  rectangle: 13.135,1.725 13.535,2.75
  region: 13.535,-1.725 13.135,-1.725 13.135,-2.75 13.535,-2.75
  rectangle: 14.405,1.725 14.805,2.75
  region: 14.805,-1.725 14.405,-1.725 14.405,-2.75 14.805,-2.75
  rectangle: 15.675,1.725 16.075,2.75
  region: 16.075,-1.725 15.675,-1.725 15.675,-2.75 16.075,-2.75

## 1365-54 [mm]
pads (54):
  rect 0.76x2.4 smd: 1(-16.51,-2.95) 2(-16.51,2.95) 3(-15.24,-2.95) 4(-15.24,2.95) 5(-13.97,-2.95) 6(-13.97,2.95) 7(-12.7,-2.95) 8(-12.7,2.95) 9(-11.43,-2.95) 10(-11.43,2.95) 11(-10.16,-2.95) 12(-10.16,2.95) 13(-8.89,-2.95) 14(-8.89,2.95) 15(-7.62,-2.95) 16(-7.62,2.95) 17(-6.35,-2.95) 18(-6.35,2.95) 19(-5.08,-2.95) 20(-5.08,2.95) 21(-3.81,-2.95) 22(-3.81,2.95) 23(-2.54,-2.95) 24(-2.54,2.95) 25(-1.27,-2.95) 26(-1.27,2.95) 27(0,-2.95) 28(0,2.95) 29(1.27,-2.95) 30(1.27,2.95) 31(2.54,-2.95) 32(2.54,2.95) 33(3.81,-2.95) 34(3.81,2.95) 35(5.08,-2.95) 36(5.08,2.95) 37(6.35,-2.95) 38(6.35,2.95) 39(7.62,-2.95) 40(7.62,2.95) 41(8.89,-2.95) 42(8.89,2.95) 43(10.16,-2.95) 44(10.16,2.95) 45(11.43,-2.95) 46(11.43,2.95) 47(12.7,-2.95) 48(12.7,2.95) 49(13.97,-2.95) 50(13.97,2.95) 51(15.24,-2.95) 52(15.24,2.95) 53(16.51,-2.95) 54(16.51,2.95)
Top Overlay:
  lines w0.203: -17.045,-1.63 17.04,-1.63 17.04,1.63 -17.045,1.63 -17.045,-1.63
Mechanical 16:
  rectangle: -16.71,1.725 -16.31,2.75
  region: -16.31,-1.725 -16.71,-1.725 -16.71,-2.75 -16.31,-2.75
  rectangle: -15.44,1.725 -15.04,2.75
  region: -15.04,-1.725 -15.44,-1.725 -15.44,-2.75 -15.04,-2.75
  rectangle: -14.17,1.725 -13.77,2.75
  region: -13.77,-1.725 -14.17,-1.725 -14.17,-2.75 -13.77,-2.75
  rectangle: -12.9,1.725 -12.5,2.75
  region: -12.5,-1.725 -12.9,-1.725 -12.9,-2.75 -12.5,-2.75
  rectangle: -11.63,1.725 -11.23,2.75
  region: -11.23,-1.725 -11.63,-1.725 -11.63,-2.75 -11.23,-2.75
  rectangle: -10.36,1.725 -9.96,2.75
  region: -9.96,-1.725 -10.36,-1.725 -10.36,-2.75 -9.96,-2.75
  rectangle: -9.09,1.725 -8.69,2.75
  region: -8.69,-1.725 -9.09,-1.725 -9.09,-2.75 -8.69,-2.75
  rectangle: -7.82,1.725 -7.42,2.75
  region: -7.42,-1.725 -7.82,-1.725 -7.82,-2.75 -7.42,-2.75
  rectangle: -6.55,1.725 -6.15,2.75
  region: -6.15,-1.725 -6.55,-1.725 -6.55,-2.75 -6.15,-2.75
  rectangle: -5.28,1.725 -4.88,2.75
  region: -4.88,-1.725 -5.28,-1.725 -5.28,-2.75 -4.88,-2.75
  rectangle: -4.01,1.725 -3.61,2.75
  region: -3.61,-1.725 -4.01,-1.725 -4.01,-2.75 -3.61,-2.75
  rectangle: -2.74,1.725 -2.34,2.75
  region: -2.34,-1.725 -2.74,-1.725 -2.74,-2.75 -2.34,-2.75
  rectangle: -1.47,1.725 -1.07,2.75
  region: -1.07,-1.725 -1.47,-1.725 -1.47,-2.75 -1.07,-2.75
  rectangle: -0.2,1.725 0.2,2.75
  region: 0.2,-1.725 -0.2,-1.725 -0.2,-2.75 0.2,-2.75
  rectangle: 1.07,1.725 1.47,2.75
  region: 1.47,-1.725 1.07,-1.725 1.07,-2.75 1.47,-2.75
  rectangle: 2.34,1.725 2.74,2.75
  region: 2.74,-1.725 2.34,-1.725 2.34,-2.75 2.74,-2.75
  rectangle: 3.61,1.725 4.01,2.75
  region: 4.01,-1.725 3.61,-1.725 3.61,-2.75 4.01,-2.75
  rectangle: 4.88,1.725 5.28,2.75
  region: 5.28,-1.725 4.88,-1.725 4.88,-2.75 5.28,-2.75
  rectangle: 6.15,1.725 6.55,2.75
  region: 6.55,-1.725 6.15,-1.725 6.15,-2.75 6.55,-2.75
  rectangle: 7.42,1.725 7.82,2.75
  region: 7.82,-1.725 7.42,-1.725 7.42,-2.75 7.82,-2.75
  rectangle: 8.69,1.725 9.09,2.75
  region: 9.09,-1.725 8.69,-1.725 8.69,-2.75 9.09,-2.75
  rectangle: 9.96,1.725 10.36,2.75
  region: 10.36,-1.725 9.96,-1.725 9.96,-2.75 10.36,-2.75
  rectangle: 11.23,1.725 11.63,2.75
  region: 11.63,-1.725 11.23,-1.725 11.23,-2.75 11.63,-2.75
  rectangle: 12.5,1.725 12.9,2.75
  region: 12.9,-1.725 12.5,-1.725 12.5,-2.75 12.9,-2.75
  rectangle: 13.77,1.725 14.17,2.75
  region: 14.17,-1.725 13.77,-1.725 13.77,-2.75 14.17,-2.75
  rectangle: 15.04,1.725 15.44,2.75
  region: 15.44,-1.725 15.04,-1.725 15.04,-2.75 15.44,-2.75
  rectangle: 16.31,1.725 16.71,2.75
  region: 16.71,-1.725 16.31,-1.725 16.31,-2.75 16.71,-2.75

## 1365-56 [mm]
pads (56):
  rect 0.76x2.4 smd: 1(-17.145,-2.95) 2(-17.145,2.95) 3(-15.875,-2.95) 4(-15.875,2.95) 5(-14.605,-2.95) 6(-14.605,2.95) 7(-13.335,-2.95) 8(-13.335,2.95) 9(-12.065,-2.95) 10(-12.065,2.95) 11(-10.795,-2.95) 12(-10.795,2.95) 13(-9.525,-2.95) 14(-9.525,2.95) 15(-8.255,-2.95) 16(-8.255,2.95) 17(-6.985,-2.95) 18(-6.985,2.95) 19(-5.715,-2.95) 20(-5.715,2.95) 21(-4.445,-2.95) 22(-4.445,2.95) 23(-3.175,-2.95) 24(-3.175,2.95) 25(-1.905,-2.95) 26(-1.905,2.95) 27(-0.635,-2.95) 28(-0.635,2.95) 29(0.635,-2.95) 30(0.635,2.95) 31(1.905,-2.95) 32(1.905,2.95) 33(3.175,-2.95) 34(3.175,2.95) 35(4.445,-2.95) 36(4.445,2.95) 37(5.715,-2.95) 38(5.715,2.95) 39(6.985,-2.95) 40(6.985,2.95) 41(8.255,-2.95) 42(8.255,2.95) 43(9.525,-2.95) 44(9.525,2.95) 45(10.795,-2.95) 46(10.795,2.95) 47(12.065,-2.95) 48(12.065,2.95) 49(13.335,-2.95) 50(13.335,2.95) 51(14.605,-2.95) 52(14.605,2.95) 53(15.875,-2.95) 54(15.875,2.95) 55(17.145,-2.95) 56(17.145,2.95)
Top Overlay:
  lines w0.203: -17.68,-1.63 17.675,-1.63 17.675,1.63 -17.68,1.63 -17.68,-1.63
Mechanical 16:
  rectangle: -17.345,1.725 -16.945,2.75
  region: -16.945,-1.725 -17.345,-1.725 -17.345,-2.75 -16.945,-2.75
  rectangle: -16.075,1.725 -15.675,2.75
  region: -15.675,-1.725 -16.075,-1.725 -16.075,-2.75 -15.675,-2.75
  rectangle: -14.805,1.725 -14.405,2.75
  region: -14.405,-1.725 -14.805,-1.725 -14.805,-2.75 -14.405,-2.75
  rectangle: -13.535,1.725 -13.135,2.75
  region: -13.135,-1.725 -13.535,-1.725 -13.535,-2.75 -13.135,-2.75
  rectangle: -12.265,1.725 -11.865,2.75
  region: -11.865,-1.725 -12.265,-1.725 -12.265,-2.75 -11.865,-2.75
  rectangle: -10.995,1.725 -10.595,2.75
  region: -10.595,-1.725 -10.995,-1.725 -10.995,-2.75 -10.595,-2.75
  rectangle: -9.725,1.725 -9.325,2.75
  region: -9.325,-1.725 -9.725,-1.725 -9.725,-2.75 -9.325,-2.75
  rectangle: -8.455,1.725 -8.055,2.75
  region: -8.055,-1.725 -8.455,-1.725 -8.455,-2.75 -8.055,-2.75
  rectangle: -7.185,1.725 -6.785,2.75
  region: -6.785,-1.725 -7.185,-1.725 -7.185,-2.75 -6.785,-2.75
  rectangle: -5.915,1.725 -5.515,2.75
  region: -5.515,-1.725 -5.915,-1.725 -5.915,-2.75 -5.515,-2.75
  rectangle: -4.645,1.725 -4.245,2.75
  region: -4.245,-1.725 -4.645,-1.725 -4.645,-2.75 -4.245,-2.75
  rectangle: -3.375,1.725 -2.975,2.75
  region: -2.975,-1.725 -3.375,-1.725 -3.375,-2.75 -2.975,-2.75
  rectangle: -2.105,1.725 -1.705,2.75
  region: -1.705,-1.725 -2.105,-1.725 -2.105,-2.75 -1.705,-2.75
  rectangle: -0.835,1.725 -0.435,2.75
  region: -0.435,-1.725 -0.835,-1.725 -0.835,-2.75 -0.435,-2.75
  rectangle: 0.435,1.725 0.835,2.75
  region: 0.835,-1.725 0.435,-1.725 0.435,-2.75 0.835,-2.75
  rectangle: 1.705,1.725 2.105,2.75
  region: 2.105,-1.725 1.705,-1.725 1.705,-2.75 2.105,-2.75
  rectangle: 2.975,1.725 3.375,2.75
  region: 3.375,-1.725 2.975,-1.725 2.975,-2.75 3.375,-2.75
  rectangle: 4.245,1.725 4.645,2.75
  region: 4.645,-1.725 4.245,-1.725 4.245,-2.75 4.645,-2.75
  rectangle: 5.515,1.725 5.915,2.75
  region: 5.915,-1.725 5.515,-1.725 5.515,-2.75 5.915,-2.75
  rectangle: 6.785,1.725 7.185,2.75
  region: 7.185,-1.725 6.785,-1.725 6.785,-2.75 7.185,-2.75
  rectangle: 8.055,1.725 8.455,2.75
  region: 8.455,-1.725 8.055,-1.725 8.055,-2.75 8.455,-2.75
  rectangle: 9.325,1.725 9.725,2.75
  region: 9.725,-1.725 9.325,-1.725 9.325,-2.75 9.725,-2.75
  rectangle: 10.595,1.725 10.995,2.75
  region: 10.995,-1.725 10.595,-1.725 10.595,-2.75 10.995,-2.75
  rectangle: 11.865,1.725 12.265,2.75
  region: 12.265,-1.725 11.865,-1.725 11.865,-2.75 12.265,-2.75
  rectangle: 13.135,1.725 13.535,2.75
  region: 13.535,-1.725 13.135,-1.725 13.135,-2.75 13.535,-2.75
  rectangle: 14.405,1.725 14.805,2.75
  region: 14.805,-1.725 14.405,-1.725 14.405,-2.75 14.805,-2.75
  rectangle: 15.675,1.725 16.075,2.75
  region: 16.075,-1.725 15.675,-1.725 15.675,-2.75 16.075,-2.75
  rectangle: 16.945,1.725 17.345,2.75
  region: 17.345,-1.725 16.945,-1.725 16.945,-2.75 17.345,-2.75

## 1365-58 [mm]
pads (58):
  rect 0.76x2.4 smd: 1(-17.78,-2.95) 2(-17.78,2.95) 3(-16.51,-2.95) 4(-16.51,2.95) 5(-15.24,-2.95) 6(-15.24,2.95) 7(-13.97,-2.95) 8(-13.97,2.95) 9(-12.7,-2.95) 10(-12.7,2.95) 11(-11.43,-2.95) 12(-11.43,2.95) 13(-10.16,-2.95) 14(-10.16,2.95) 15(-8.89,-2.95) 16(-8.89,2.95) 17(-7.62,-2.95) 18(-7.62,2.95) 19(-6.35,-2.95) 20(-6.35,2.95) 21(-5.08,-2.95) 22(-5.08,2.95) 23(-3.81,-2.95) 24(-3.81,2.95) 25(-2.54,-2.95) 26(-2.54,2.95) 27(-1.27,-2.95) 28(-1.27,2.95) 29(0,-2.95) 30(0,2.95) 31(1.27,-2.95) 32(1.27,2.95) 33(2.54,-2.95) 34(2.54,2.95) 35(3.81,-2.95) 36(3.81,2.95) 37(5.08,-2.95) 38(5.08,2.95) 39(6.35,-2.95) 40(6.35,2.95) 41(7.62,-2.95) 42(7.62,2.95) 43(8.89,-2.95) 44(8.89,2.95) 45(10.16,-2.95) 46(10.16,2.95) 47(11.43,-2.95) 48(11.43,2.95) 49(12.7,-2.95) 50(12.7,2.95) 51(13.97,-2.95) 52(13.97,2.95) 53(15.24,-2.95) 54(15.24,2.95) 55(16.51,-2.95) 56(16.51,2.95) 57(17.78,-2.95) 58(17.78,2.95)
Top Overlay:
  lines w0.203: -18.315,-1.63 18.31,-1.63 18.31,1.63 -18.315,1.63 -18.315,-1.63
Mechanical 16:
  rectangle: -17.98,1.725 -17.58,2.75
  region: -17.58,-1.725 -17.98,-1.725 -17.98,-2.75 -17.58,-2.75
  rectangle: -16.71,1.725 -16.31,2.75
  region: -16.31,-1.725 -16.71,-1.725 -16.71,-2.75 -16.31,-2.75
  rectangle: -15.44,1.725 -15.04,2.75
  region: -15.04,-1.725 -15.44,-1.725 -15.44,-2.75 -15.04,-2.75
  rectangle: -14.17,1.725 -13.77,2.75
  region: -13.77,-1.725 -14.17,-1.725 -14.17,-2.75 -13.77,-2.75
  rectangle: -12.9,1.725 -12.5,2.75
  region: -12.5,-1.725 -12.9,-1.725 -12.9,-2.75 -12.5,-2.75
  rectangle: -11.63,1.725 -11.23,2.75
  region: -11.23,-1.725 -11.63,-1.725 -11.63,-2.75 -11.23,-2.75
  rectangle: -10.36,1.725 -9.96,2.75
  region: -9.96,-1.725 -10.36,-1.725 -10.36,-2.75 -9.96,-2.75
  rectangle: -9.09,1.725 -8.69,2.75
  region: -8.69,-1.725 -9.09,-1.725 -9.09,-2.75 -8.69,-2.75
  rectangle: -7.82,1.725 -7.42,2.75
  region: -7.42,-1.725 -7.82,-1.725 -7.82,-2.75 -7.42,-2.75
  rectangle: -6.55,1.725 -6.15,2.75
  region: -6.15,-1.725 -6.55,-1.725 -6.55,-2.75 -6.15,-2.75
  rectangle: -5.28,1.725 -4.88,2.75
  region: -4.88,-1.725 -5.28,-1.725 -5.28,-2.75 -4.88,-2.75
  rectangle: -4.01,1.725 -3.61,2.75
  region: -3.61,-1.725 -4.01,-1.725 -4.01,-2.75 -3.61,-2.75
  rectangle: -2.74,1.725 -2.34,2.75
  region: -2.34,-1.725 -2.74,-1.725 -2.74,-2.75 -2.34,-2.75
  rectangle: -1.47,1.725 -1.07,2.75
  region: -1.07,-1.725 -1.47,-1.725 -1.47,-2.75 -1.07,-2.75
  rectangle: -0.2,1.725 0.2,2.75
  region: 0.2,-1.725 -0.2,-1.725 -0.2,-2.75 0.2,-2.75
  rectangle: 1.07,1.725 1.47,2.75
  region: 1.47,-1.725 1.07,-1.725 1.07,-2.75 1.47,-2.75
  rectangle: 2.34,1.725 2.74,2.75
  region: 2.74,-1.725 2.34,-1.725 2.34,-2.75 2.74,-2.75
  rectangle: 3.61,1.725 4.01,2.75
  region: 4.01,-1.725 3.61,-1.725 3.61,-2.75 4.01,-2.75
  rectangle: 4.88,1.725 5.28,2.75
  region: 5.28,-1.725 4.88,-1.725 4.88,-2.75 5.28,-2.75
  rectangle: 6.15,1.725 6.55,2.75
  region: 6.55,-1.725 6.15,-1.725 6.15,-2.75 6.55,-2.75
  rectangle: 7.42,1.725 7.82,2.75
  region: 7.82,-1.725 7.42,-1.725 7.42,-2.75 7.82,-2.75
  rectangle: 8.69,1.725 9.09,2.75
  region: 9.09,-1.725 8.69,-1.725 8.69,-2.75 9.09,-2.75
  rectangle: 9.96,1.725 10.36,2.75
  region: 10.36,-1.725 9.96,-1.725 9.96,-2.75 10.36,-2.75
  rectangle: 11.23,1.725 11.63,2.75
  region: 11.63,-1.725 11.23,-1.725 11.23,-2.75 11.63,-2.75
  rectangle: 12.5,1.725 12.9,2.75
  region: 12.9,-1.725 12.5,-1.725 12.5,-2.75 12.9,-2.75
  rectangle: 13.77,1.725 14.17,2.75
  region: 14.17,-1.725 13.77,-1.725 13.77,-2.75 14.17,-2.75
  rectangle: 15.04,1.725 15.44,2.75
  region: 15.44,-1.725 15.04,-1.725 15.04,-2.75 15.44,-2.75
  rectangle: 16.31,1.725 16.71,2.75
  region: 16.71,-1.725 16.31,-1.725 16.31,-2.75 16.71,-2.75
  rectangle: 17.58,1.725 17.98,2.75
  region: 17.98,-1.725 17.58,-1.725 17.58,-2.75 17.98,-2.75

## 1365-60 [mm]
pads (60):
  rect 0.76x2.4 smd: 1(-18.415,-2.95) 2(-18.415,2.95) 3(-17.145,-2.95) 4(-17.145,2.95) 5(-15.875,-2.95) 6(-15.875,2.95) 7(-14.605,-2.95) 8(-14.605,2.95) 9(-13.335,-2.95) 10(-13.335,2.95) 11(-12.065,-2.95) 12(-12.065,2.95) 13(-10.795,-2.95) 14(-10.795,2.95) 15(-9.525,-2.95) 16(-9.525,2.95) 17(-8.255,-2.95) 18(-8.255,2.95) 19(-6.985,-2.95) 20(-6.985,2.95) 21(-5.715,-2.95) 22(-5.715,2.95) 23(-4.445,-2.95) 24(-4.445,2.95) 25(-3.175,-2.95) 26(-3.175,2.95) 27(-1.905,-2.95) 28(-1.905,2.95) 29(-0.635,-2.95) 30(-0.635,2.95) 31(0.635,-2.95) 32(0.635,2.95) 33(1.905,-2.95) 34(1.905,2.95) 35(3.175,-2.95) 36(3.175,2.95) 37(4.445,-2.95) 38(4.445,2.95) 39(5.715,-2.95) 40(5.715,2.95) 41(6.985,-2.95) 42(6.985,2.95) 43(8.255,-2.95) 44(8.255,2.95) 45(9.525,-2.95) 46(9.525,2.95) 47(10.795,-2.95) 48(10.795,2.95) 49(12.065,-2.95) 50(12.065,2.95) 51(13.335,-2.95) 52(13.335,2.95) 53(14.605,-2.95) 54(14.605,2.95) 55(15.875,-2.95) 56(15.875,2.95) 57(17.145,-2.95) 58(17.145,2.95) 59(18.415,-2.95) 60(18.415,2.95)
Top Overlay:
  lines w0.203: -18.95,-1.63 18.945,-1.63 18.945,1.63 -18.95,1.63 -18.95,-1.63
Mechanical 16:
  rectangle: -18.615,1.725 -18.215,2.75
  region: -18.215,-1.725 -18.615,-1.725 -18.615,-2.75 -18.215,-2.75
  rectangle: -17.345,1.725 -16.945,2.75
  region: -16.945,-1.725 -17.345,-1.725 -17.345,-2.75 -16.945,-2.75
  rectangle: -16.075,1.725 -15.675,2.75
  region: -15.675,-1.725 -16.075,-1.725 -16.075,-2.75 -15.675,-2.75
  rectangle: -14.805,1.725 -14.405,2.75
  region: -14.405,-1.725 -14.805,-1.725 -14.805,-2.75 -14.405,-2.75
  rectangle: -13.535,1.725 -13.135,2.75
  region: -13.135,-1.725 -13.535,-1.725 -13.535,-2.75 -13.135,-2.75
  rectangle: -12.265,1.725 -11.865,2.75
  region: -11.865,-1.725 -12.265,-1.725 -12.265,-2.75 -11.865,-2.75
  rectangle: -10.995,1.725 -10.595,2.75
  region: -10.595,-1.725 -10.995,-1.725 -10.995,-2.75 -10.595,-2.75
  rectangle: -9.725,1.725 -9.325,2.75
  region: -9.325,-1.725 -9.725,-1.725 -9.725,-2.75 -9.325,-2.75
  rectangle: -8.455,1.725 -8.055,2.75
  region: -8.055,-1.725 -8.455,-1.725 -8.455,-2.75 -8.055,-2.75
  rectangle: -7.185,1.725 -6.785,2.75
  region: -6.785,-1.725 -7.185,-1.725 -7.185,-2.75 -6.785,-2.75
  rectangle: -5.915,1.725 -5.515,2.75
  region: -5.515,-1.725 -5.915,-1.725 -5.915,-2.75 -5.515,-2.75
  rectangle: -4.645,1.725 -4.245,2.75
  region: -4.245,-1.725 -4.645,-1.725 -4.645,-2.75 -4.245,-2.75
  rectangle: -3.375,1.725 -2.975,2.75
  region: -2.975,-1.725 -3.375,-1.725 -3.375,-2.75 -2.975,-2.75
  rectangle: -2.105,1.725 -1.705,2.75
  region: -1.705,-1.725 -2.105,-1.725 -2.105,-2.75 -1.705,-2.75
  rectangle: -0.835,1.725 -0.435,2.75
  region: -0.435,-1.725 -0.835,-1.725 -0.835,-2.75 -0.435,-2.75
  rectangle: 0.435,1.725 0.835,2.75
  region: 0.835,-1.725 0.435,-1.725 0.435,-2.75 0.835,-2.75
  rectangle: 1.705,1.725 2.105,2.75
  region: 2.105,-1.725 1.705,-1.725 1.705,-2.75 2.105,-2.75
  rectangle: 2.975,1.725 3.375,2.75
  region: 3.375,-1.725 2.975,-1.725 2.975,-2.75 3.375,-2.75
  rectangle: 4.245,1.725 4.645,2.75
  region: 4.645,-1.725 4.245,-1.725 4.245,-2.75 4.645,-2.75
  rectangle: 5.515,1.725 5.915,2.75
  region: 5.915,-1.725 5.515,-1.725 5.515,-2.75 5.915,-2.75
  rectangle: 6.785,1.725 7.185,2.75
  region: 7.185,-1.725 6.785,-1.725 6.785,-2.75 7.185,-2.75
  rectangle: 8.055,1.725 8.455,2.75
  region: 8.455,-1.725 8.055,-1.725 8.055,-2.75 8.455,-2.75
  rectangle: 9.325,1.725 9.725,2.75
  region: 9.725,-1.725 9.325,-1.725 9.325,-2.75 9.725,-2.75
  rectangle: 10.595,1.725 10.995,2.75
  region: 10.995,-1.725 10.595,-1.725 10.595,-2.75 10.995,-2.75
  rectangle: 11.865,1.725 12.265,2.75
  region: 12.265,-1.725 11.865,-1.725 11.865,-2.75 12.265,-2.75
  rectangle: 13.135,1.725 13.535,2.75
  region: 13.535,-1.725 13.135,-1.725 13.135,-2.75 13.535,-2.75
  rectangle: 14.405,1.725 14.805,2.75
  region: 14.805,-1.725 14.405,-1.725 14.405,-2.75 14.805,-2.75
  rectangle: 15.675,1.725 16.075,2.75
  region: 16.075,-1.725 15.675,-1.725 15.675,-2.75 16.075,-2.75
  rectangle: 16.945,1.725 17.345,2.75
  region: 17.345,-1.725 16.945,-1.725 16.945,-2.75 17.345,-2.75
  rectangle: 18.215,1.725 18.615,2.75
  region: 18.615,-1.725 18.215,-1.725 18.215,-2.75 18.615,-2.75

## 1365-62 [mm]
pads (62):
  rect 0.76x2.4 smd: 1(-19.05,-2.95) 2(-19.05,2.95) 3(-17.78,-2.95) 4(-17.78,2.95) 5(-16.51,-2.95) 6(-16.51,2.95) 7(-15.24,-2.95) 8(-15.24,2.95) 9(-13.97,-2.95) 10(-13.97,2.95) 11(-12.7,-2.95) 12(-12.7,2.95) 13(-11.43,-2.95) 14(-11.43,2.95) 15(-10.16,-2.95) 16(-10.16,2.95) 17(-8.89,-2.95) 18(-8.89,2.95) 19(-7.62,-2.95) 20(-7.62,2.95) 21(-6.35,-2.95) 22(-6.35,2.95) 23(-5.08,-2.95) 24(-5.08,2.95) 25(-3.81,-2.95) 26(-3.81,2.95) 27(-2.54,-2.95) 28(-2.54,2.95) 29(-1.27,-2.95) 30(-1.27,2.95) 31(0,-2.95) 32(0,2.95) 33(1.27,-2.95) 34(1.27,2.95) 35(2.54,-2.95) 36(2.54,2.95) 37(3.81,-2.95) 38(3.81,2.95) 39(5.08,-2.95) 40(5.08,2.95) 41(6.35,-2.95) 42(6.35,2.95) 43(7.62,-2.95) 44(7.62,2.95) 45(8.89,-2.95) 46(8.89,2.95) 47(10.16,-2.95) 48(10.16,2.95) 49(11.43,-2.95) 50(11.43,2.95) 51(12.7,-2.95) 52(12.7,2.95) 53(13.97,-2.95) 54(13.97,2.95) 55(15.24,-2.95) 56(15.24,2.95) 57(16.51,-2.95) 58(16.51,2.95) 59(17.78,-2.95) 60(17.78,2.95) 61(19.05,-2.95) 62(19.05,2.95)
Top Overlay:
  lines w0.203: -19.585,-1.63 19.58,-1.63 19.58,1.63 -19.585,1.63 -19.585,-1.63
Mechanical 16:
  rectangle: -19.25,1.725 -18.85,2.75
  region: -18.85,-1.725 -19.25,-1.725 -19.25,-2.75 -18.85,-2.75
  rectangle: -17.98,1.725 -17.58,2.75
  region: -17.58,-1.725 -17.98,-1.725 -17.98,-2.75 -17.58,-2.75
  rectangle: -16.71,1.725 -16.31,2.75
  region: -16.31,-1.725 -16.71,-1.725 -16.71,-2.75 -16.31,-2.75
  rectangle: -15.44,1.725 -15.04,2.75
  region: -15.04,-1.725 -15.44,-1.725 -15.44,-2.75 -15.04,-2.75
  rectangle: -14.17,1.725 -13.77,2.75
  region: -13.77,-1.725 -14.17,-1.725 -14.17,-2.75 -13.77,-2.75
  rectangle: -12.9,1.725 -12.5,2.75
  region: -12.5,-1.725 -12.9,-1.725 -12.9,-2.75 -12.5,-2.75
  rectangle: -11.63,1.725 -11.23,2.75
  region: -11.23,-1.725 -11.63,-1.725 -11.63,-2.75 -11.23,-2.75
  rectangle: -10.36,1.725 -9.96,2.75
  region: -9.96,-1.725 -10.36,-1.725 -10.36,-2.75 -9.96,-2.75
  rectangle: -9.09,1.725 -8.69,2.75
  region: -8.69,-1.725 -9.09,-1.725 -9.09,-2.75 -8.69,-2.75
  rectangle: -7.82,1.725 -7.42,2.75
  region: -7.42,-1.725 -7.82,-1.725 -7.82,-2.75 -7.42,-2.75
  rectangle: -6.55,1.725 -6.15,2.75
  region: -6.15,-1.725 -6.55,-1.725 -6.55,-2.75 -6.15,-2.75
  rectangle: -5.28,1.725 -4.88,2.75
  region: -4.88,-1.725 -5.28,-1.725 -5.28,-2.75 -4.88,-2.75
  rectangle: -4.01,1.725 -3.61,2.75
  region: -3.61,-1.725 -4.01,-1.725 -4.01,-2.75 -3.61,-2.75
  rectangle: -2.74,1.725 -2.34,2.75
  region: -2.34,-1.725 -2.74,-1.725 -2.74,-2.75 -2.34,-2.75
  rectangle: -1.47,1.725 -1.07,2.75
  region: -1.07,-1.725 -1.47,-1.725 -1.47,-2.75 -1.07,-2.75
  rectangle: -0.2,1.725 0.2,2.75
  region: 0.2,-1.725 -0.2,-1.725 -0.2,-2.75 0.2,-2.75
  rectangle: 1.07,1.725 1.47,2.75
  region: 1.47,-1.725 1.07,-1.725 1.07,-2.75 1.47,-2.75
  rectangle: 2.34,1.725 2.74,2.75
  region: 2.74,-1.725 2.34,-1.725 2.34,-2.75 2.74,-2.75
  rectangle: 3.61,1.725 4.01,2.75
  region: 4.01,-1.725 3.61,-1.725 3.61,-2.75 4.01,-2.75
  rectangle: 4.88,1.725 5.28,2.75
  region: 5.28,-1.725 4.88,-1.725 4.88,-2.75 5.28,-2.75
  rectangle: 6.15,1.725 6.55,2.75
  region: 6.55,-1.725 6.15,-1.725 6.15,-2.75 6.55,-2.75
  rectangle: 7.42,1.725 7.82,2.75
  region: 7.82,-1.725 7.42,-1.725 7.42,-2.75 7.82,-2.75
  rectangle: 8.69,1.725 9.09,2.75
  region: 9.09,-1.725 8.69,-1.725 8.69,-2.75 9.09,-2.75
  rectangle: 9.96,1.725 10.36,2.75
  region: 10.36,-1.725 9.96,-1.725 9.96,-2.75 10.36,-2.75
  rectangle: 11.23,1.725 11.63,2.75
  region: 11.63,-1.725 11.23,-1.725 11.23,-2.75 11.63,-2.75
  rectangle: 12.5,1.725 12.9,2.75
  region: 12.9,-1.725 12.5,-1.725 12.5,-2.75 12.9,-2.75
  rectangle: 13.77,1.725 14.17,2.75
  region: 14.17,-1.725 13.77,-1.725 13.77,-2.75 14.17,-2.75
  rectangle: 15.04,1.725 15.44,2.75
  region: 15.44,-1.725 15.04,-1.725 15.04,-2.75 15.44,-2.75
  rectangle: 16.31,1.725 16.71,2.75
  region: 16.71,-1.725 16.31,-1.725 16.31,-2.75 16.71,-2.75
  rectangle: 17.58,1.725 17.98,2.75
  region: 17.98,-1.725 17.58,-1.725 17.58,-2.75 17.98,-2.75
  rectangle: 18.85,1.725 19.25,2.75
  region: 19.25,-1.725 18.85,-1.725 18.85,-2.75 19.25,-2.75